# Altium schematic symbol library milliohm-adapter.SchLib: 6 symbols
Pins are listed as number, name and electrical type; pins without a type are passive.

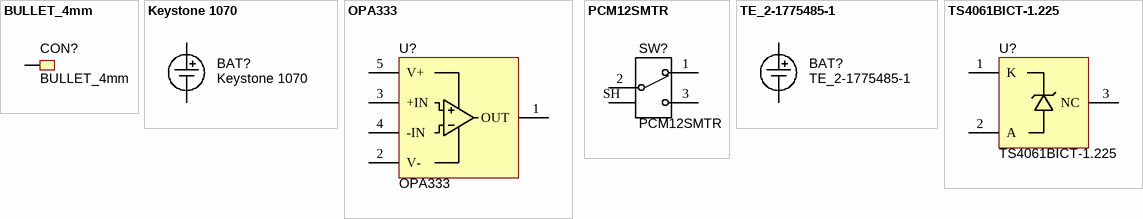
[diagram p0: symbols BULLET_4mm to TS4061BICT-1.225]

## BULLET_4mm
designator CON?
footprint AMASS-GC4010-F-PCB-EDGE
footprint AMASS-GC4010-M-PCB-EDGE
footprint AMASS-GC4010-F-THT
footprint AMASS-GC4010-M-THT
pins: 1

## Keystone 1070
designator BAT?
footprint Keystone_1070
pins: minus, plus

## OPA333
designator U?
footprint TI_DBV0005A_SOT23-5 (SOT23, 5-Leads, Body 2,90x2,80mm, Pitch 0,95mm, IPC Medium Density)
pins: 1 OUT, 2 V-, 3 +IN, 4 -IN, 5 V+

## PCM12SMTR
designator SW?
footprint PCM12SMTR
pins: 1, 2, 3, SH

## TE_2-1775485-1
designator BAT?
footprint TE_2-1775485-1 (CR2032 Battery Holder, Vertical)
pins: minus, plus

## TS4061BICT-1.225
designator U?
footprint TS4061_SOT323-3L (SOT23, 3-Leads, Body 2,00x2,10mm, Pitch 0,65mm, IPC Medium Density)
pins: 1 K, 2 A, 3 NC